# EAGLE library part 612X4020621 (library Wuerth_Elektronik_eiCan_05_Box_Header_IDC_Connectors_1_2)
WR-BHD 2.54mm Male SMT Box Header High Temperature, 40 pins
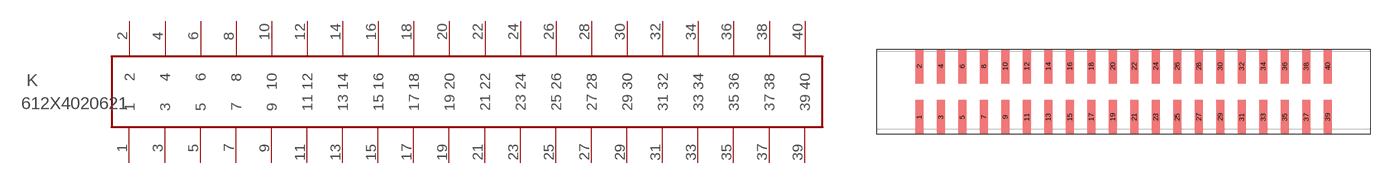
[diagram p73: symbol with the pads of 612X4020621; footprint 612X4020621]

Designator prefix K

## 612X4020621  [612X4020621]
1  1  pas
2  2  pas
3  3  pas
4  4  pas
5  5  pas
6  6  pas
7  7  pas
8  8  pas
9  9  pas
10  10  pas
11  11  pas
12  12  pas
13  13  pas
14  14  pas
15  15  pas
16  16  pas
17  17  pas
18  18  pas
19  19  pas
20  20  pas
21  21  pas
22  22  pas
23  23  pas
24  24  pas
25  25  pas
26  26  pas
27  27  pas
28  28  pas
29  29  pas
30  30  pas
31  31  pas
32  32  pas
33  33  pas
34  34  pas
35  35  pas
36  36  pas
37  37  pas
38  38  pas
39  39  pas
40  40  pas

## Footprint 612X4020621 (pad centres in mm)
WR-BHD 2.54mm Male SMT Box Header High Temperature, 40 pins
smd 0.9 x 4: 1 -20.32,-3; 2 -20.32,3; 3 -17.78,-3; 4 -17.78,3; 5 -15.24,-3; 6 -15.24,3; 7 -12.7,-3; 8 -12.7,3; 9 -10.16,-3; 10 -10.16,3; 11 -7.62,-3; 12 -7.62,3; 13 -5.08,-3; 14 -5.08,3; 15 -2.54,-3; 16 -2.54,3; 17 0,-3; 18 0,3; 19 2.54,-3; 20 2.54,3; 21 5.08,-3; 22 5.08,3; 23 7.62,-3; 24 7.62,3; 25 10.16,-3; 26 10.16,3; 27 12.7,-3; 28 12.7,3; 29 15.24,-3; 30 15.24,3; 31 17.78,-3; 32 17.78,3; 33 20.32,-3; 34 20.32,3; 35 22.86,-3; 36 22.86,3; 37 25.4,-3; 38 25.4,3; 39 27.94,-3; 40 27.94,3